# EAGLE library part STM32F405RGT6TR (library STM32F405RGT6TR)
High-performance foundation line, ARM Cortex-M4 core with DSP and FPU, 1 Mbyte Flash, 168 MHz CPU, ART Accelerator Check availability <https://pricing.snapeda.com/parts/STM32F405RGT6TR/STMicroelectronics/view-part?ref=eda>
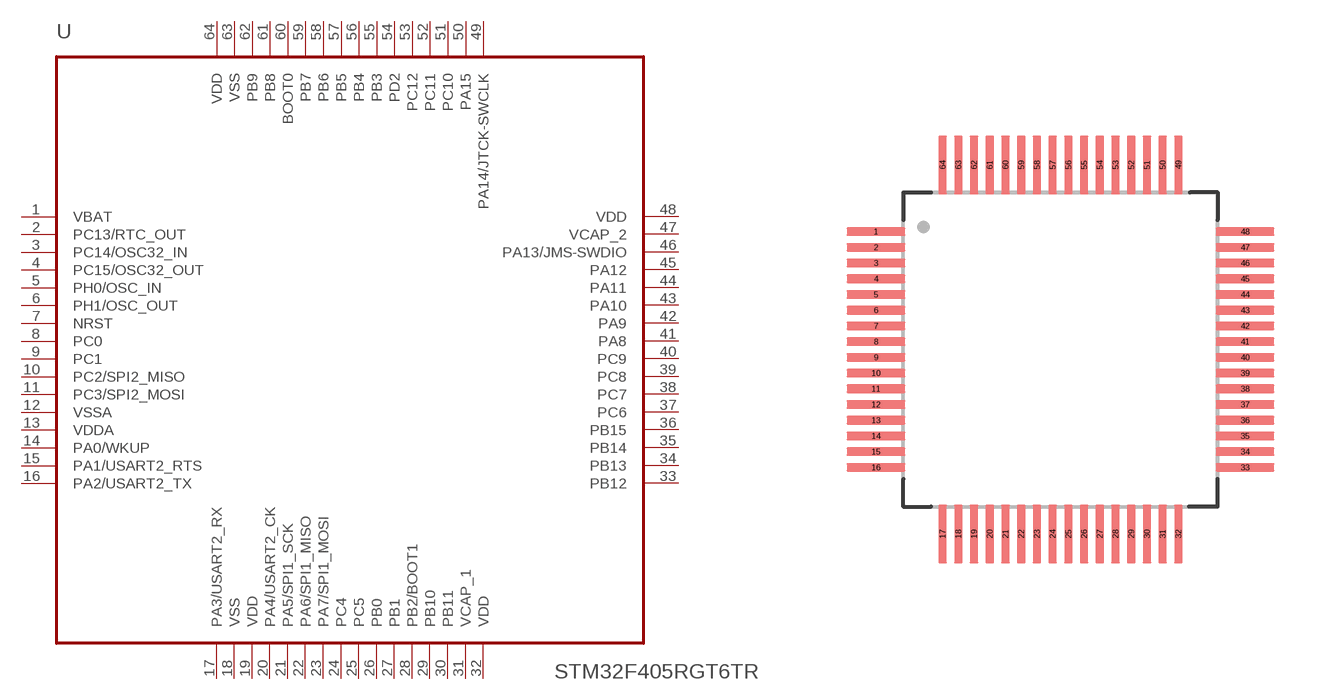
[diagram p0: symbol with the pads of QFP50P1200X1200X160-64N; footprint QFP50P1200X1200X160-64N]

Designator prefix U

## STM32F405RGT6TR (AVAILABILITY: In Stock; DESCRIPTION: ARM® Cortex®-M4 STM32F4 Microcontroller IC 32-Bit Single-Core 168MHz 1MB (1M x 8) FLASH 64-LQFP (10x10); MF: STMicroelectronics; MP: STM32F405RGT6TR; PACKAGE: LQFP-64 STMicroelectronics; PRICE: None; PURCHASE-URL: https://pricing.snapeda.com/search/part/STM32F405RGT6TR/?ref=eda)  [QFP50P1200X1200X160-64N]
1  VBAT  pwr
2  PC13/RTC_OUT
3  PC14/OSC32_IN
4  PC15/OSC32_OUT
5  PH0/OSC_IN
6  PH1/OSC_OUT
7  NRST
8  PC0
9  PC1
10  PC2/SPI2_MISO
11  PC3/SPI2_MOSI
12  VSSA  pwr
13  VDDA  pwr
14  PA0/WKUP
15  PA1/USART2_RTS
16  PA2/USART2_TX
17  PA3/USART2_RX
18  VSS  pwr
19  VDD  pwr
20  PA4/USART2_CK
21  PA5/SPI1_SCK
22  PA6/SPI1_MISO
23  PA7/SPI1_MOSI
24  PC4
25  PC5
26  PB0
27  PB1
28  PB2/BOOT1
29  PB10
30  PB11
31  VCAP_1  pwr
32  VDD  pwr
33  PB12
34  PB13
35  PB14
36  PB15
37  PC6
38  PC7
39  PC8
40  PC9
41  PA8
42  PA9
43  PA10
44  PA11
45  PA12
46  PA13/JMS-SWDIO
47  VCAP_2  pwr
48  VDD  pwr
49  PA14/JTCK-SWCLK
50  PA15
51  PC10
52  PC11
53  PC12
54  PD2
55  PB3
56  PB4
57  PB5
58  PB6
59  PB7
60  BOOT0
61  PB8
62  PB9
63  VSS  pwr
64  VDD  pwr

## Footprint QFP50P1200X1200X160-64N (pad centres in mm)
smd 1.87 x 0.28: 1 -5.87,3.75; 2 -5.87,3.25; 3 -5.87,2.75; 4 -5.87,2.25; 5 -5.87,1.75; 6 -5.87,1.25; 7 -5.87,0.75; 8 -5.87,0.25; 9 -5.87,-0.25; 10 -5.87,-0.75; 11 -5.87,-1.25; 12 -5.87,-1.75; 13 -5.87,-2.25; 14 -5.87,-2.75; 15 -5.87,-3.25; 16 -5.87,-3.75; 33 5.87,-3.75; 34 5.87,-3.25; 35 5.87,-2.75; 36 5.87,-2.25; 37 5.87,-1.75; 38 5.87,-1.25; 39 5.87,-0.75; 40 5.87,-0.25; 41 5.87,0.25; 42 5.87,0.75; 43 5.87,1.25; 44 5.87,1.75; 45 5.87,2.25; 46 5.87,2.75; 47 5.87,3.25; 48 5.87,3.75
smd 0.28 x 1.87: 17 -3.75,-5.87; 18 -3.25,-5.87; 19 -2.75,-5.87; 20 -2.25,-5.87; 21 -1.75,-5.87; 22 -1.25,-5.87; 23 -0.75,-5.87; 24 -0.25,-5.87; 25 0.25,-5.87; 26 0.75,-5.87; 27 1.25,-5.87; 28 1.75,-5.87; 29 2.25,-5.87; 30 2.75,-5.87; 31 3.25,-5.87; 32 3.75,-5.87; 49 3.75,5.87; 50 3.25,5.87; 51 2.75,5.87; 52 2.25,5.87; 53 1.75,5.87; 54 1.25,5.87; 55 0.75,5.87; 56 0.25,5.87; 57 -0.25,5.87; 58 -0.75,5.87; 59 -1.25,5.87; 60 -1.75,5.87; 61 -2.25,5.87; 62 -2.75,5.87; 63 -3.25,5.87; 64 -3.75,5.87